# Altium schematic symbol library SGM8551.SchLib: 1 symbol
Pins are listed as number, name and electrical type; pins without a type are passive.

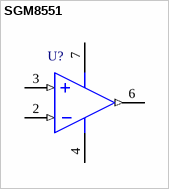
[diagram p0: symbol SGM8551]

## SGM8551
designator U?
pins: 2 IN- (in), 3 IN+ (in), 4 -VSS (power), 6 OUT (out), 7 +VSS (power)